# Altium schematic symbol library MAX15062CATA+T.SchLib: 1 symbol
Pins are listed as number, name and electrical type; pins without a type are passive.

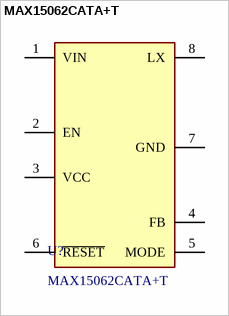
[diagram p0: symbol MAX15062CATA+T]

## MAX15062CATA+T
designator U?
IC REG BUCK ADJ 300MA 8TDFN
footprint 8-WFDFN
pins: 1 VIN, 2 EN, 3 VCC, 4 FB, 5 MODE, 6 ~{RESET}, 7 GND, 8 LX